# EAGLE library part ISL9113 (library pimoroni-ics)
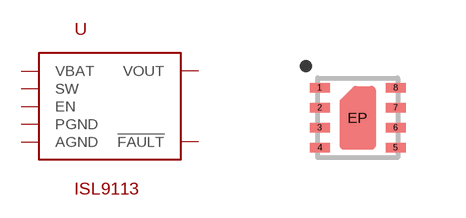
[diagram p110: symbol with the pads of DFN-8-2X2; footprint DFN-8-2X2]

Designator prefix U

## ISL9113  [DFN-8-2X2]
1  PGND
2  VOUT
4  !FAULT
5  EN
6  AGND
7  VBAT
8  SW
EP  PGND

## Footprint DFN-8-2X2 (pad centres in mm)
smd 0.5 x 0.23: 1 -0.95,0.75; 2 -0.95,0.25; 3 -0.95,-0.25; 4 -0.95,-0.75; 5 0.95,-0.75; 6 0.95,-0.25; 7 0.95,0.25; 8 0.95,0.75
smd 0.4 x 0.4: EP 0,0